# Altium footprint library INA219.PcbLib: 2 footprints
Each footprint in its own frame and in the unit in brackets; x right, y up, seen from the top. Pads: shape width x height; smd on the part's side, far side on the other; paste and mask are expansions set on the pad; w line width, h text height; cw(c..) or ccw(c..) is an arc to the next point about the centre after c.
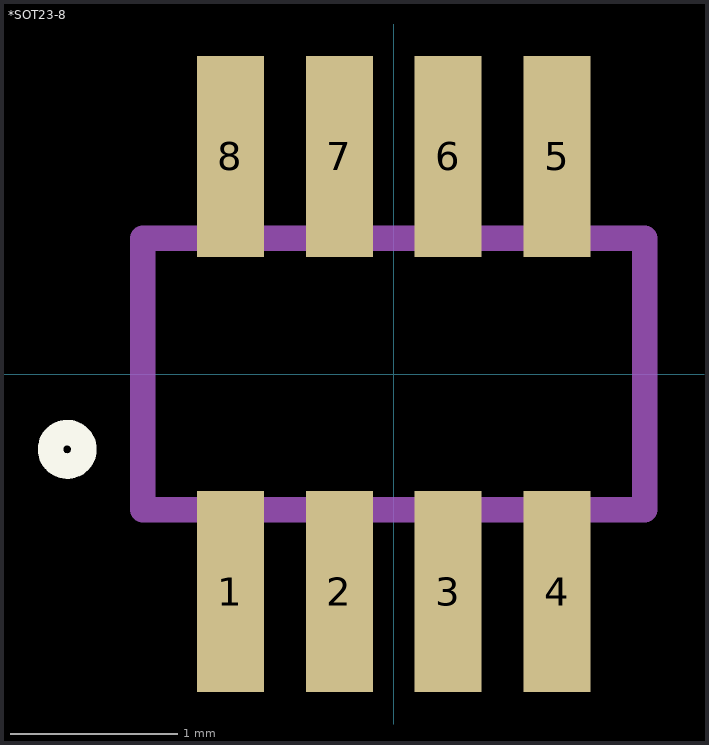
[diagram p0: the footprints below, top view; thin cyan lines are the x and y axes]

## *SOT23-8 [mm]
pads (8):
  rect 0.4x1.2 smd: 1(-0.975,-1.3) 2(-0.325,-1.3) 3(0.325,-1.3) 4(0.975,-1.3) 5(0.975,1.3) 6(0.325,1.3) 7(-0.325,1.3) 8(-0.975,1.3)
Top Overlay:
  circle w0.152: c-1.95,-0.45 r0.1
Mechanical 4:
  region: -1.166,1.5 -0.785,1.5 -0.785,0.876 -1.166,0.876
  region: -1.167,-0.875 -0.785,-0.875 -0.785,-1.503 -1.167,-1.503
  region: -0.516,-0.875 -0.135,-0.875 -0.135,-1.502 -0.516,-1.502
  region: 0.135,-0.875 0.515,-0.875 0.515,-1.501 0.135,-1.501
  region: 0.786,-0.875 1.165,-0.875 1.165,-1.501 0.786,-1.501
  region: 0.785,1.5 1.165,1.5 1.165,0.875 0.785,0.875
  region: 0.135,1.5 0.515,1.5 0.515,0.875 0.135,0.875
  region: -0.516,1.5 -0.135,1.5 -0.135,0.877 -0.516,0.877
  region: -1.166,1.5 -0.785,1.5 -0.785,0.876 -1.166,0.876
  region: -1.167,-0.875 -0.785,-0.875 -0.785,-1.503 -1.167,-1.503
  region: -0.516,-0.875 -0.135,-0.875 -0.135,-1.502 -0.516,-1.502
  region: 0.135,-0.875 0.515,-0.875 0.515,-1.501 0.135,-1.501
  region: 0.786,-0.875 1.165,-0.875 1.165,-1.501 0.786,-1.501
  region: 0.785,1.5 1.165,1.5 1.165,0.875 0.785,0.875
  region: 0.135,1.5 0.515,1.5 0.515,0.875 0.135,0.875
  region: -0.516,1.5 -0.135,1.5 -0.135,0.877 -0.516,0.877
  lines w0.152: -1.5,-0.81 1.5,-0.81 ; -1.5,-0.81 -1.5,0.81 ; -1.5,-0.81 1.5,-0.81 ; -1.5,-0.81 -1.5,0.81 ; -1.5,0.81 1.5,0.81 ; -1.5,0.81 1.5,0.81 ; 1.5,-0.81 1.5,0.81 ; 1.5,-0.81 1.5,0.81
3D body: height 13.65, standoff -13.65, extent 2.794,1.905 2.794,1.905
3D body: height 0.9, standoff 0, extent -1.397,-0.889 1.397,0.889

## PCBComponent_1 [mm]